# Altium schematic symbol library MAX14921ECS.SchLib: 1 symbol
Pins are listed as number, name and electrical type; pins without a type are passive.

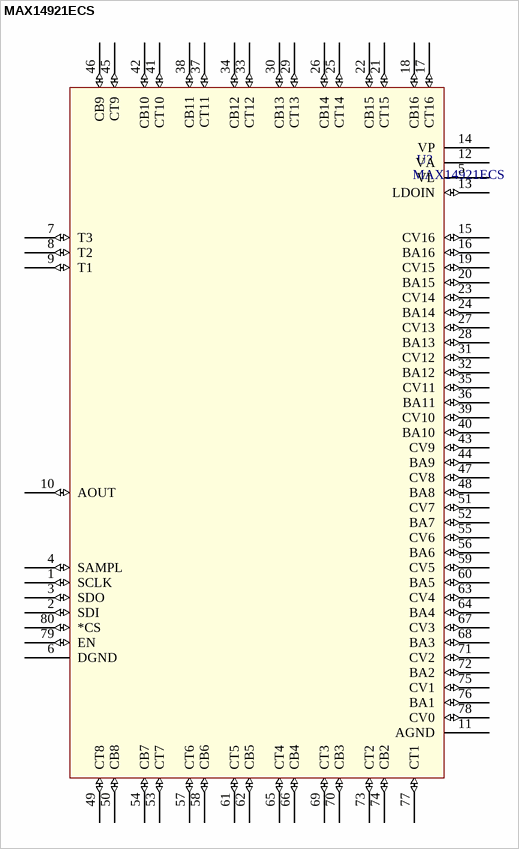
[diagram p0: symbol MAX14921ECS]

## MAX14921ECS
designator U?
High Accuracy 16 Cell Battery Monitoring; MP: MAX14921ECS+; MF: Maxim Integrated; SnapEDA_Link: https://www.snapeda.com/parts/MAX14921ECS%2B/Maxim%20Integrated/view-part/?ref=snap; Package: TQFP-80 Maxim Integrated; Availability: Unavailable; Price: None; Value: *
footprint *21-0072F
pins: 1 SCLK (io), 2 SDI (io), 3 SDO (io), 4 SAMPL (io), 5 VL (power), 6 DGND (power), 7 T3 (io), 8 T2 (io), 9 T1 (io), 10 AOUT (io), 11 AGND (power), 12 VA (power), 13 LDOIN (io), 14 VP (power), 15 CV16 (io), 16 BA16 (io), 17 CT16 (io), 18 CB16 (io), 19 CV15 (io), 20 BA15 (io), 21 CT15 (io), 22 CB15 (io), 23 CV14 (io), 24 BA14 (io), 25 CT14 (io), 26 CB14 (io), 27 CV13 (io), 28 BA13 (io), 29 CT13 (io), 30 CB13 (io), 31 CV12 (io), 32 BA12 (io), 33 CT12 (io), 34 CB12 (io), 35 CV11 (io), 36 BA11 (io), 37 CT11 (io), 38 CB11 (io), 39 CV10 (io), 40 BA10 (io), 41 CT10 (io), 42 CB10 (io), 43 CV9 (io), 44 BA9 (io), 45 CT9 (io), 46 CB9 (io), 47 CV8 (io), 48 BA8 (io), 49 CT8 (io), 50 CB8 (io), 51 CV7 (io), 52 BA7 (io), 53 CT7 (io), 54 CB7 (io), 55 CV6 (io), 56 BA6 (io), 57 CT6 (io), 58 CB6 (io), 59 CV5 (io), 60 BA5 (io), 61 CT5 (io), 62 CB5 (io), 63 CV4 (io), 64 BA4 (io), 65 CT4 (io), 66 CB4 (io), 67 CV3 (io), 68 BA3 (io), 69 CT3 (io), 70 CB3 (io), 71 CV2 (io), 72 BA2 (io), 73 CT2 (io), 74 CB2 (io), 75 CV1 (io), 76 BA1 (io), 77 CT1 (io), 78 CV0 (io), 79 EN (io), 80 *CS (io)